# EAGLE library part BMP085 (library elem)
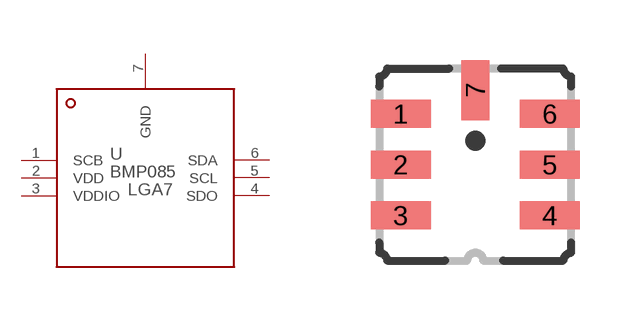
[diagram p3: symbol with the pads of LGA7; footprint LGA7]

Designator prefix -

## BMP085  [LGA7]
1  SCB  nc
2  VDD  pwr
3  VDDIO  pwr
4  SDO  nc
5  SCL  in
6  SDA
7  GND  pwr

## Footprint LGA7 (pad centres in mm)
8-Terminal Ceramic Leadless Chip Carrier [LCC] (E-8) Source: www.analog.com/UploadedFiles/Packages/189346426E_8.pdf
smd 1.5 x 0.7: 1 -1.867,1.27; 2 -1.867,0; 3 -1.867,-1.27; 4 1.867,-1.27; 5 1.867,0; 6 1.867,1.27
smd 0.7 x 1.5: 7 0,1.867